# Altium footprint library PCB.PcbLib: 45 footprints (part 1 of 3)
Each footprint in its own frame and in the unit in brackets; x right, y up, seen from the top. Pads: shape width x height; smd on the part's side, far side on the other; paste and mask are expansions set on the pad; w line width, h text height; cw(c..) or ccw(c..) is an arc to the next point about the centre after c.
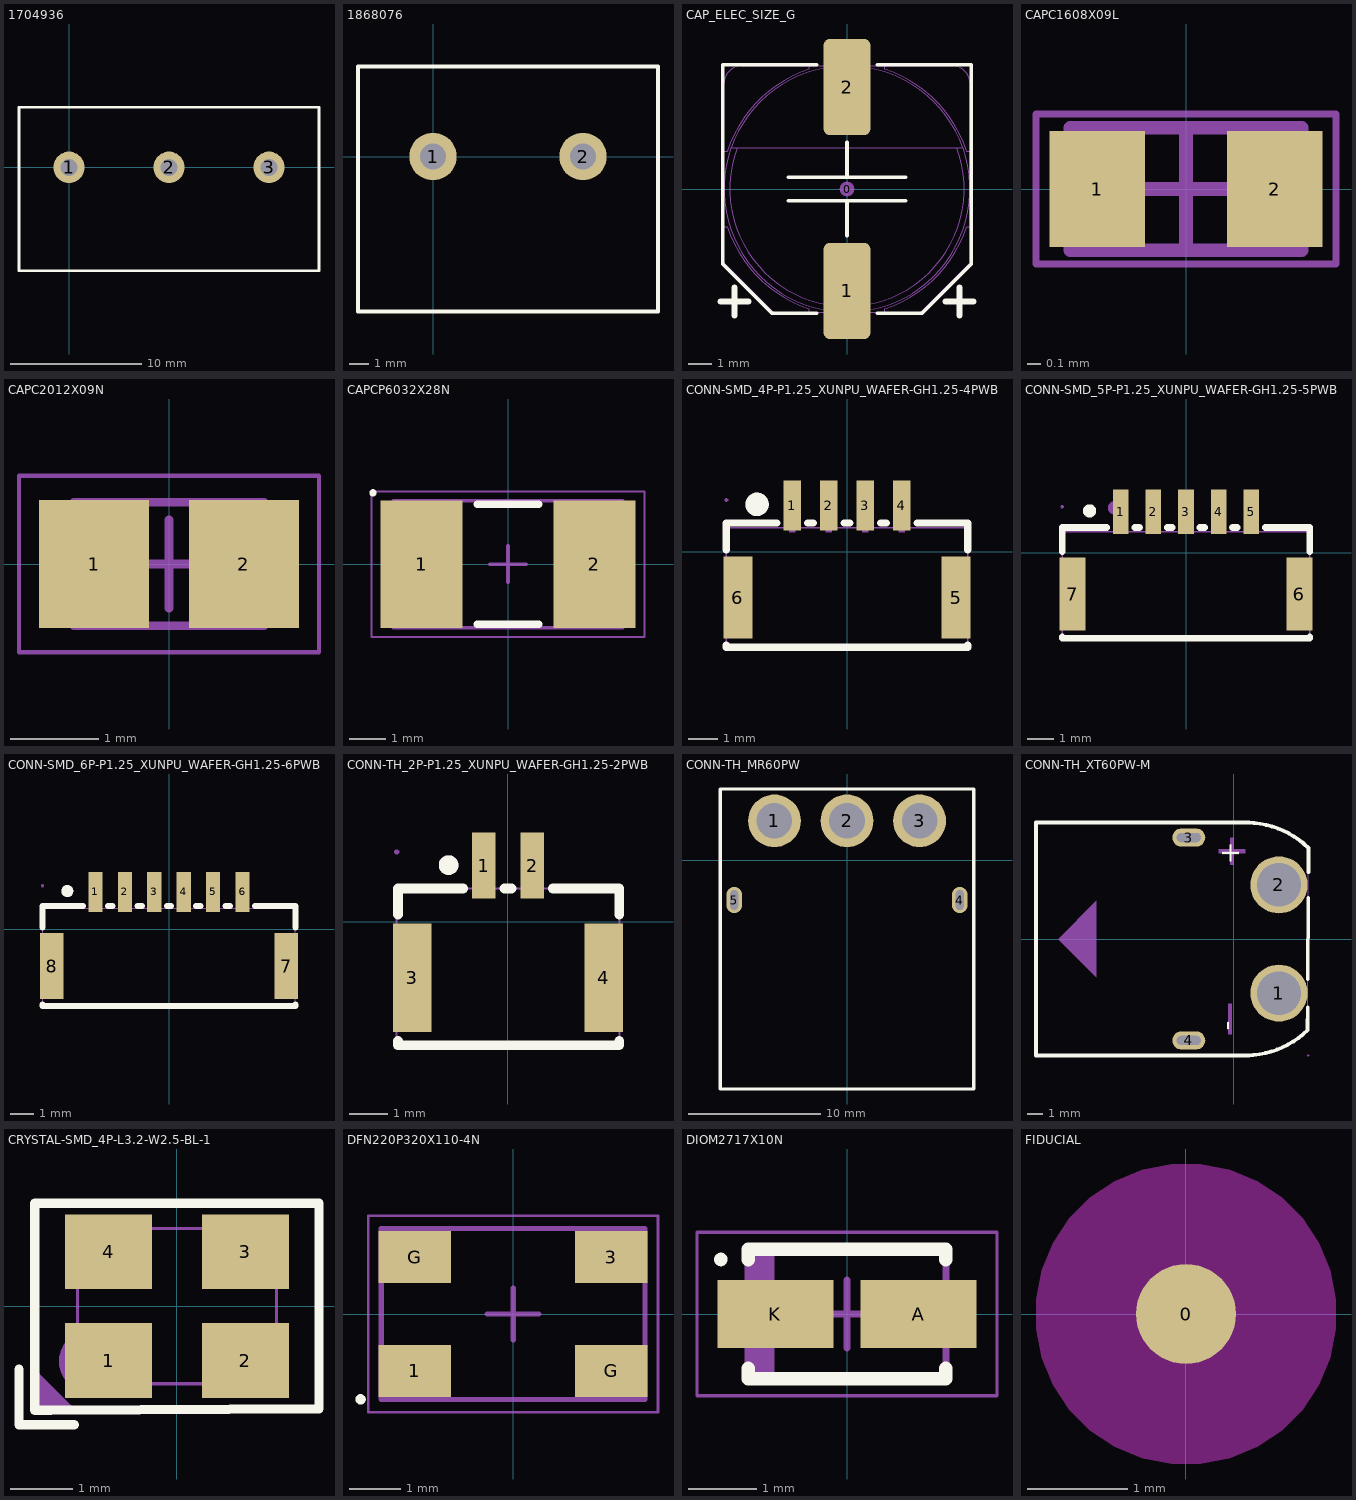
[diagram p0: the footprints below, top view; thin cyan lines are the x and y axes]

## 1704936 [mm]
pads (3):
  round 2.4 hole 1.3: 1(0,0) 2(7.62,0) 3(15.24,0)
Top Overlay:
  lines w0.2: -3.81,-7.874 19.05,-7.874 19.05,4.572 -3.81,4.572 -3.81,-7.874

## 1868076 [mm]
pads (2):
  round 2.4 hole 1.3: 1(0,0) 2(7.62,0)
Top Overlay:
  lines w0.2: -3.81,-7.874 -3.81,4.572 11.43,4.572 11.43,-7.874 -3.81,-7.874

## CAP_ELEC_SIZE_G [mm]
pads (3):
  round 0.635 on Mech15: 0(0,0)
  rrect25% 2x4.1 smd: 1(0,-4.35) 2(0,4.35)
Top Overlay:
  lines w0.152: -2.5,-0.5 2.5,-0.5 ; -2.5,0.5 2.5,0.5 ; -1.3,-5.3 -3.2,-5.3 -5.3,-3.2 -5.3,5.3 -1.3,5.3 ; 0,-2 0,-0.5 ; 0,0.5 0,2 ; 1.3,-5.3 3.2,-5.3 5.3,-3.2 5.3,5.3 1.3,5.3
  lines w0.254: -5.4,-4.8 -4.2,-4.8 ; -4.8,-5.4 -4.8,-4.2 ; 4.2,-4.8 5.4,-4.8 ; 4.8,-5.4 4.8,-4.2
Mechanical 13:
  lines w0.05: -5.25,-1.601 -5.105,-1.601 ccw(c0,0) -1.601,-5.105 -1.601,-5.25 ; -5.25,1.601 -5.105,1.601 cw(c0,0) -1.601,5.105 -1.601,5.25 ; -4.948,1.75 cw(c0,0) 4.948,1.75 ; -4.684,1.75 ccw(c0,0) 4.684,1.75 ; -0.45,-5.25 -0.45,-6 0.45,-6 0.45,-5.25 ; -0.45,5.25 -0.45,6 0.45,6 0.45,5.25 ; 1.601,-5.25 1.601,-5.105 ccw(c0,0) 5.105,-1.601 5.25,-1.601 ; 1.601,5.25 1.601,5.105 cw(c0,0) 5.105,1.601 5.25,1.601 ; -5.25,-3.15 -5.25,4.5 cw(c-4.5,4.5) -4.5,5.25 4.5,5.25 cw(c4.5,4.5) 5.25,4.5 5.25,-3.15 3.15,-5.25 -3.15,-5.25 -5.25,-3.15 ; -4.95,1.75 ccw(c0,0) 4.95,1.75 -4.95,1.75
3D body "CAP Alum Elec Size G.STEP": height 10.5, standoff 0, extent -5.25,-6 5.25,6

## CAPC1608X09L [mm]
pads (2):
  rect 0.7x0.85 smd: 1(-0.65,0) 2(0.65,0)
Mechanical 13:
  lines w0.1: -0.85,-0.45 0.85,-0.45 0.85,0.45 -0.85,0.45 -0.85,-0.45
Mechanical 15:
  lines w0.05: -1.1,-0.55 1.1,-0.55 1.1,0.55 -1.1,0.55 -1.1,-0.55
  lines w0.1: -0.45,0 0.45,0 ; 0,-0.45 0,0.45
3D body: height 0.9, standoff 0, extent 0.55,-0.45 0.85,0.45
3D body: height 0.9, standoff 0, extent -0.85,-0.45 -0.55,0.45
3D body: height 0.9, standoff 0, extent -0.55,-0.45 0.55,0.45

## CAPC2012X09N [mm]
pads (2):
  rect 1.25x1.45 smd: 1(-0.85,0) 2(0.85,0)
Mechanical 13:
  lines w0.1: -1.075,-0.7 1.075,-0.7 1.075,0.7 -1.075,0.7 -1.075,-0.7
Mechanical 15:
  lines w0.05: -1.7,-1 1.7,-1 1.7,1 -1.7,1 -1.7,-1
  lines w0.1: -0.5,0 0.5,0 ; 0,-0.5 0,0.5
3D body: height 0.95, standoff 0, extent 0.625,-0.7 1.075,0.7
3D body: height 0.95, standoff 0, extent -1.075,-0.7 -0.625,0.7
3D body: height 0.95, standoff 0, extent -0.625,-0.7 0.625,0.7

## CAPCP6032X28N [mm]
pads (2):
  rect 2.25x3.5 smd: 1(-2.375,0) 2(2.375,0)
Top Overlay:
  circle w0.1: c-3.712,1.962 r0.05
  lines w0.2: -0.85,-1.65 0.85,-1.65 ; -0.85,1.65 0.85,1.65
Mechanical 13:
  lines w0.1: -3.15,-1.75 3.15,-1.75 3.15,1.75 -3.15,1.75 -3.15,-1.75
Mechanical 15:
  lines w0.05: -3.75,-2 3.75,-2 3.75,2 -3.75,2 -3.75,-2
  lines w0.1: -0.5,0 0.5,0 ; 0,-0.5 0,0.5
3D body: height 2.8, standoff 0, extent 1.85,-1.75 3.15,1.75
3D body: height 2.8, standoff 0, extent -1.85,-1.75 1.85,1.75
3D body: height 2.8, standoff 0, extent -3.15,-1.75 -1.85,1.75

## CONN-SMD_4P-P1.25_XUNPU_WAFER-GH1.25-4PWB [mm]
pads (6):
  rect 0.6x1.7 smd paste+0 mask+0.05: 1(-1.875,1.575) 2(-0.625,1.575) 3(0.625,1.575) 4(1.875,1.575)
  rect 1x2.8 smd paste+0 mask+0.05: 5(3.725,-1.575) 6(-3.725,-1.575)
Top Overlay:
  circle w0.4: c-3.072,1.613 r0.2
  lines w0.254: -4.125,-3.206 -4.125,-3.272 4.125,-3.272 4.125,-3.206 ; -4.125,0.056 -4.125,0.978 -2.406,0.978 ; -1.344,0.978 -1.156,0.978 ; -0.094,0.978 0.094,0.978 ; 1.156,0.978 1.344,0.978 ; 2.406,0.978 4.125,0.978 4.125,0.056
Mechanical 6:
  circle w0.4: c-3.072,1.613 r0.2
Mechanical 15:
  region: -4.065,1.765 -4.065,1.79 -4.1,1.825 -4.15,1.825 -4.185,1.79 -4.185,1.765 -4.185,1.74 -4.15,1.705 -4.1,1.705 -4.065,1.74
  region: -1.975,1.765 -1.775,1.765 -1.775,0.665 -1.975,0.665
  region: -0.725,1.765 -0.525,1.765 -0.525,0.665 -0.725,0.665
  region: 0.525,1.765 0.725,1.765 0.725,0.665 0.525,0.665
  region: 1.775,1.765 1.975,1.765 1.975,0.665 1.775,0.665
  region: -3.825,-0.775 -3.625,-0.775 -3.625,-2.775 -3.825,-2.775
  region: 3.625,-0.775 3.825,-0.775 3.825,-2.775 3.625,-2.775
  lines w0.051: -4.125,-3.235 -4.125,0.815 4.125,0.815 4.125,-3.235 -4.125,-3.235

## CONN-SMD_5P-P1.25_XUNPU_WAFER-GH1.25-5PWB [mm]
pads (7):
  rect 0.6x1.7 smd paste+0 mask+0.05: 1(-2.5,1.575) 2(-1.25,1.575) 3(0,1.575) 4(1.25,1.575) 5(2.5,1.575)
  rect 1x2.8 smd paste+0 mask+0.05: 6(4.35,-1.575) 7(-4.35,-1.575)
Top Overlay:
  circle w0.254: c-3.697,1.613 r0.127
  lines w0.254: -4.75,-3.206 -4.75,-3.272 4.75,-3.272 4.75,-3.206 ; -4.75,0.056 -4.75,0.978 -3.031,0.978 ; -1.969,0.978 -1.781,0.978 ; -0.719,0.978 -0.531,0.978 ; 0.531,0.978 0.719,0.978 ; 1.781,0.978 1.969,0.978 ; 3.031,0.978 4.75,0.978 4.75,0.056
Mechanical 6:
  circle w0.254: c-2.741,1.73 r0.127
Mechanical 15:
  region: 4.25,-0.575 4.45,-0.575 4.45,-2.575 4.25,-2.575
  region: -4.45,-0.575 -4.25,-0.575 -4.25,-2.575 -4.45,-2.575
  region: 1.15,1.771 1.35,1.771 1.35,0.771 1.15,0.771
  region: -0.1,1.771 0.1,1.771 0.1,0.771 -0.1,0.771
  region: -1.35,1.771 -1.15,1.771 -1.15,0.771 -1.35,0.771
  region: -2.6,1.771 -2.4,1.771 -2.4,0.771 -2.6,0.771
  region: 2.4,1.771 2.6,1.771 2.6,0.771 2.4,0.771
  region: -4.69,1.771 -4.69,1.796 -4.725,1.831 -4.775,1.831 -4.81,1.796 -4.81,1.771 -4.81,1.746 -4.775,1.711 -4.725,1.711 -4.69,1.746
  lines w0.051: -4.75,-3.229 4.75,-3.229 4.75,0.821 -4.75,0.821 -4.75,-3.229

## CONN-SMD_6P-P1.25_XUNPU_WAFER-GH1.25-6PWB [mm]
pads (8):
  rect 0.6x1.7 smd paste+0 mask+0.05: 1(-3.125,1.575) 2(-1.875,1.575) 3(-0.625,1.575) 4(0.625,1.575) 5(1.875,1.575) 6(3.125,1.575)
  rect 1x2.8 smd paste+0 mask+0.05: 7(4.975,-1.575) 8(-4.975,-1.575)
Top Overlay:
  circle w0.254: c-4.322,1.613 r0.127
  lines w0.254: -5.375,-3.206 -5.375,-3.272 5.375,-3.272 5.375,-3.206 ; -5.375,0.056 -5.375,0.978 -3.656,0.978 ; -2.594,0.978 -2.406,0.978 ; -1.344,0.978 -1.156,0.978 ; -0.094,0.978 0.094,0.978 ; 1.156,0.978 1.344,0.978 ; 2.406,0.978 2.594,0.978 ; 3.656,0.978 5.375,0.978 5.375,0.056
Mechanical 6:
  circle w0.254: c-4.322,1.613 r0.127
Mechanical 15:
  region: -5.075,-0.575 -4.875,-0.575 -4.875,-2.575 -5.075,-2.575
  region: 4.875,-0.575 5.075,-0.575 5.075,-2.575 4.875,-2.575
  region: 0.525,1.835 0.725,1.835 0.725,0.835 0.525,0.835
  region: -0.725,1.835 -0.525,1.835 -0.525,0.835 -0.725,0.835
  region: -1.975,1.835 -1.775,1.835 -1.775,0.835 -1.975,0.835
  region: -3.225,1.835 -3.025,1.835 -3.025,0.835 -3.225,0.835
  region: 1.775,1.835 1.975,1.835 1.975,0.835 1.775,0.835
  region: 3.025,1.835 3.225,1.835 3.225,0.835 3.025,0.835
  region: -5.315,1.835 -5.315,1.86 -5.35,1.895 -5.4,1.895 -5.435,1.86 -5.435,1.835 -5.435,1.81 -5.4,1.775 -5.35,1.775 -5.315,1.81
  lines w0.051: -5.375,-3.165 5.375,-3.165 5.375,0.885 -5.375,0.885 -5.375,-3.165

## CONN-TH_2P-P1.25_XUNPU_WAFER-GH1.25-2PWB [mm]
pads (4):
  rect 0.6x1.7 smd paste+0 mask+0.05: 1(-0.625,1.45) 2(0.625,1.45)
  rect 1x2.8 smd paste+0 mask+0.05: 3(-2.475,-1.45) 4(2.475,-1.45)
Top Overlay:
  circle w0.254: c-1.535,1.46 r0.127
  lines w0.254: -2.838,-3.081 -2.838,-3.195 2.875,-3.195 2.875,-3.081 ; -2.838,0.181 -2.838,0.853 -1.156,0.853 ; -0.094,0.853 0.094,0.853 ; 1.156,0.853 2.875,0.853 2.875,0.181
Mechanical 6:
  circle w0.254: c-1.535,1.46 r0.127
Mechanical 15:
  region: -2.815,1.803 -2.815,1.828 -2.85,1.863 -2.9,1.863 -2.935,1.828 -2.935,1.803 -2.935,1.778 -2.9,1.743 -2.85,1.743 -2.815,1.778
  region: 0.525,1.803 0.725,1.803 0.725,0.803 0.525,0.803
  region: -0.725,1.803 -0.525,1.803 -0.525,0.803 -0.725,0.803
  region: 2.375,-0.45 2.575,-0.45 2.575,-2.45 2.375,-2.45
  region: -2.575,-0.45 -2.375,-0.45 -2.375,-2.45 -2.575,-2.45
  lines w0.051: -2.875,-3.197 -2.875,0.853 2.875,0.853 2.875,-3.197 -2.875,-3.197

## CONN-TH_MR60PW [mm]
pads (5):
  round 4 hole 2.7: 1(-5.5,3) 2(0,3) 3(5.5,3)
  oval 1.2x2 hole 0.6 slot 1.5 at 90 deg: 4(8.55,-3) 5(-8.55,-3)
Top Overlay:
  lines w0.254: -9.6,2.864 -9.6,5.413 -9.398,5.413 9.6,5.413 9.6,3 9.6,-17.32 -9.6,-17.32 -9.6,3

## CONN-TH_XT60PW-M [mm]
pads (4):
  round 3.8 hole 2.9 paste-2539.97 mask+0.05: 1(3,-3.6) 2(3,3.6)
  oval 2.2x1.2 hole 0.6 slot 1.6 at 0 deg paste-2539.97 mask+0.05: 3(-3,6.75) 4(-3,-6.75)
Top Overlay:
  lines w0.254: 0.889,-7.747 ccw(c0.746,-1.749) 4.917,-6.062 ; 0.937,7.747 cw(c0.794,1.749) 4.965,6.062 4.956,4.441 ; 1,-7.75 -13.166,-7.75 -13.166,7.75 1,7.75 ; 4.902,-5.994 4.909,-4.544 ; 4.919,-2.676 4.947,2.738
  text "+" at 0.364,4.953 h1.33
  text "-" at 0.11,-6.096 h1.33
Mechanical 6:
  region: -0.381,-4.318 -0.127,-4.318 -0.127,-6.35 -0.381,-6.35
  region: -0.254,6.731 0,6.731 0,5.969 0.762,5.969 0.762,5.715 0,5.715 0,4.953 -0.254,4.953 -0.254,5.715 -1.016,5.715 -1.016,5.969 -0.254,5.969
  region: -9.144,2.54 -9.144,-2.54 -11.684,0
Mechanical 15:
  region: -2.4,-6.55 -2.4,-6.95 -3.6,-6.95 -3.6,-6.55
  region: -2.4,6.95 -2.4,6.55 -3.6,6.55 -3.6,6.95
  region: 4,-3.6 4,-3.468 3.932,-3.214 3.8,-2.986 3.614,-2.8 3.386,-2.668 3.132,-2.6 2.868,-2.6 2.614,-2.668 2.386,-2.8 2.2,-2.986 2.068,-3.214 2,-3.468 2,-3.6 2,-3.732 2.068,-3.986 2.2,-4.214 2.386,-4.4 2.614,-4.532 2.868,-4.6 3.132,-4.6 3.386,-4.532 3.614,-4.4 3.8,-4.214 3.932,-3.986 4,-3.732
  region: 4,3.6 4,3.732 3.932,3.986 3.8,4.214 3.614,4.4 3.386,4.532 3.132,4.6 2.868,4.6 2.614,4.532 2.386,4.4 2.2,4.214 2.068,3.986 2,3.732 2,3.6 2,3.468 2.068,3.214 2.2,2.986 2.386,2.8 2.614,2.668 2.868,2.6 3.132,2.6 3.386,2.668 3.614,2.8 3.8,2.986 3.932,3.214 4,3.468
  region: 5.013,-7.747 5.012,-7.723 4.977,-7.69 4.929,-7.69 4.894,-7.723 4.893,-7.747 4.894,-7.771 4.929,-7.805 4.977,-7.805 5.012,-7.771
  lines w0.051: -13.166,-7.747 -13.166,7.747 1.016,7.747 1.778,7.62 2.794,7.366 3.81,6.858 4.826,6.096 4.953,5.969 4.902,-5.994 4.699,-6.223 3.937,-6.858 3.175,-7.239 2.159,-7.493 1.143,-7.747 -13.166,-7.747

## CRYSTAL-SMD_4P-L3.2-W2.5-BL-1 [mm]
pads (4):
  rect 1.4x1.2 smd: 1(-1.1,-0.875) 2(1.1,-0.875) 3(1.1,0.875) 4(-1.1,0.875)
Top Overlay:
  lines w0.152: -2.54,-1.016 -2.54,-1.778 -2.54,-1.905 -1.651,-1.905 ; -2.286,-1.679 -2.03,-1.679 2.286,-1.651 2.286,0 2.286,1.651 -2.286,1.651 -2.286,-1.679
Mechanical 6:
  circle w0.5: c-1.397,-0.889 r0.25
  region: -2.286,-1.016 -2.286,-1.651 -1.651,-1.651
Mechanical 15:
  region: -1.54,-1.25 -1.541,-1.226 -1.576,-1.193 -1.624,-1.193 -1.659,-1.226 -1.66,-1.25 -1.659,-1.274 -1.624,-1.307 -1.576,-1.307 -1.541,-1.274
  region: 0.45,-0.35 1.5,-0.35 1.5,-1.15 0.45,-1.15
  region: -1.5,-0.35 -0.45,-0.35 -0.45,-1.15 -1.5,-1.15
  region: -1.5,1.15 -0.45,1.15 -0.45,0.35 -1.5,0.35
  region: 0.45,1.15 1.5,1.15 1.5,0.35 0.45,0.35
  lines w0.051: -1.6,-1.25 -1.6,1.25 1.6,1.25 1.6,-1.25 -1.6,-1.25

## DFN220P320X110-4N [mm]
pads (4):
  rect 1.4x1 smd: 1(-1.9,-1.1) 3(1.9,1.1) G(-1.9,1.1) G(1.9,-1.1)
Top Overlay:
  circle w0.1: c-2.95,-1.65 r0.05
Mechanical 13:
  lines w0.1: -2.55,-1.65 2.55,-1.65 2.55,1.65 -2.55,1.65 -2.55,-1.65
Mechanical 15:
  lines w0.05: -2.8,-1.9 2.8,-1.9 2.8,1.9 -2.8,1.9 -2.8,-1.9
  lines w0.1: -0.5,0 0.5,0 ; 0,-0.5 0,0.5
3D body: height 1.1, standoff 0, extent -2.55,-1.65 2.55,1.65

## DIOM2717X10N [mm]
pads (2):
  rect 1.7x1 smd: A(1.05,0) K(-1.05,0)
Top Overlay:
  circle w0.1: c-1.85,0.8 r0.05
  lines w0.2: -1.45,-0.8 -1.45,-0.95 1.45,-0.95 1.45,-0.8 ; -1.45,0.8 -1.45,0.95 1.45,0.95 1.45,0.8
Mechanical 13:
  rectangle: -1.45,-0.9 -1.06,0.9
  lines w0.1: -1.45,-0.9 1.45,-0.9 1.45,0.9 -1.45,0.9 -1.45,-0.9
Mechanical 15:
  lines w0.05: -2.2,-1.2 2.2,-1.2 2.2,1.2 -2.2,1.2 -2.2,-1.2
  lines w0.1: -0.5,0 0.5,0 ; 0,-0.5 0,0.5
3D body: height 1, standoff 0, extent -1.45,-0.9 1.45,0.9

## FIDUCIAL [mm]
pads (1):
  round 1 smd paste-1 mask+0.5: 0(0,0)
Keep-Out Layer:
  region: 0,-1.5 -0.148,-1.5 -0.438,-1.442 -0.711,-1.329 -0.956,-1.165 -1.165,-0.956 -1.329,-0.711 -1.442,-0.438 -1.5,-0.148 -1.5,0 -1.5,0.148 -1.442,0.438 -1.329,0.711 -1.165,0.956 -0.956,1.165 -0.711,1.329 -0.438,1.442 -0.148,1.5 0,1.5 0.148,1.5 0.438,1.442 0.711,1.329 0.956,1.165 1.165,0.956 1.329,0.711 1.442,0.438 1.5,0.148 1.5,0 1.5,-0.148 1.442,-0.438 1.329,-0.711 1.165,-0.956 0.956,-1.165 0.711,-1.329 0.438,-1.442 0.148,-1.5